# EAGLE library part AP3211 (library IC)
Step Down Adj Buck
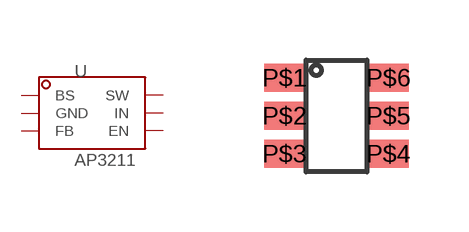
[diagram p3: symbol with the pads of SOT23-6; footprint SOT23-6]

Designator prefix U

## AP3211  [SOT23-6]
P$1  BS
P$2  GND
P$3  FB
P$4  EN
P$5  IN
P$6  SW

## Footprint SOT23-6 (pad centres in mm)
smd 1 x 0.7: P$1 -1.3,0.95; P$2 -1.3,0; P$3 -1.3,-0.95; P$4 1.3,-0.95; P$5 1.3,0; P$6 1.3,0.95